# EAGLE library part ICM7555IPA (library other)
General Purpose Timers Source: Datasheet
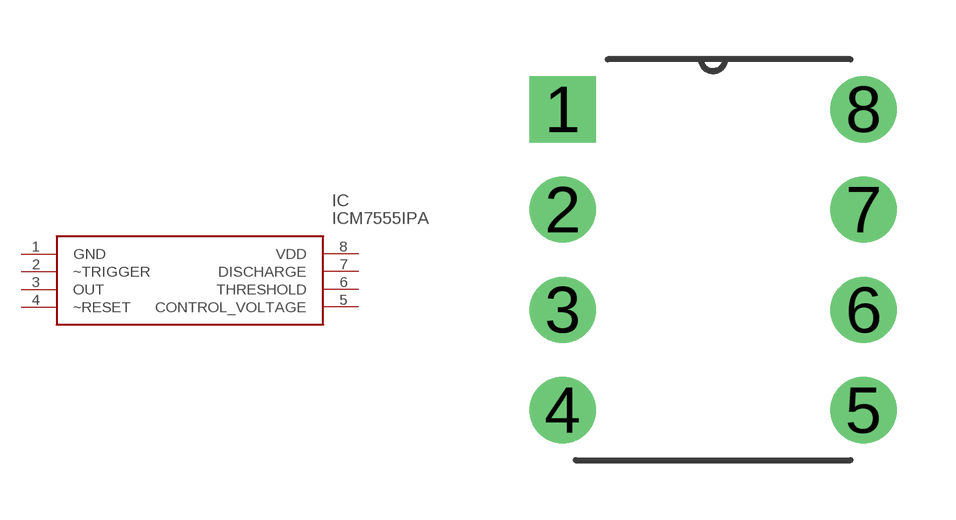
[diagram p12: symbol with the pads of DIP254P762X533-8; footprint DIP254P762X533-8]

Designator prefix IC

## ICM7555IPA (ARROW_PART_NUMBER: ICM7555IPA; DESCRIPTION: General Purpose Timers; HEIGHT: mm; MANUFACTURER_NAME: Intersil; MANUFACTURER_PART_NUMBER: ICM7555IPA)  [DIP254P762X533-8]
1  GND
2  ~TRIGGER
3  OUT
4  ~RESET
5  CONTROL_VOLTAGE
6  THRESHOLD
7  DISCHARGE
8  VDD

## Footprint DIP254P762X533-8 (pad centres in mm)
DIP254P762X533-8
drill 1.118 pad 1.676 square: 1 -7.62,7.62
drill 1.118 pad 1.676: 2 -7.62,5.08; 3 -7.62,2.54; 4 -7.62,0; 5 0,0; 6 0,2.54; 7 0,5.08; 8 0,7.62